# EAGLE library part 749022022 (library Wurth Electronics Midcom Inc V1-0)
Package Style: LAN 1000BT 2 Port PoE+ ETR Mounting: SMD Pins: 48 pins Header: 250-0959 Windings Primary: Aux: Secondary: Best pinouts for production vary per application. Please contact Wurth Electronics Midcom, Inc. for assistance with your custom design. Datasheet: 749022022 <http://www.we-online.com/web/en/index.php/show/media/passive_components_-_custom_magnetics/pdf_doc_files/spec_sheets/7490/749022022.pdf> Website: Wurth Electronics Midcom <http://www.we-online.com/midcom> Contact us Wurth Electronics Midcom, Inc. 121 Airport Dr. Watertown, SD 57201 Phone: (605) 886-4385 Fax: (605) 886-4486 E-Mail: midcom@we-online.com
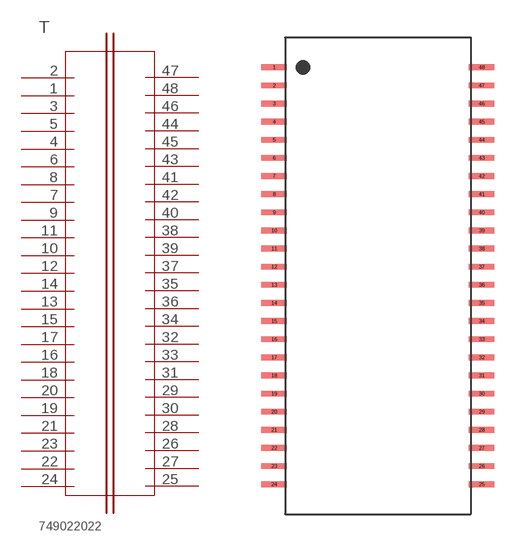
[diagram p148: symbol with the pads of 01STANDARD_LAN_1000BT_2PORT_250-0959; footprint 01STANDARD_LAN_1000BT_2PORT_250-0959]

Designator prefix T

## 749022022  [01STANDARD_LAN_1000BT_2PORT_250-0959]
1  2  pas
2  1  pas
3  3  pas
4  5  pas
5  4  pas
6  6  pas
7  8  pas
8  7  pas
9  9  pas
10  11  pas
11  10  pas
12  12  pas
13  14  pas
14  13  pas
15  15  pas
16  17  pas
17  16  pas
18  18  pas
19  20  pas
20  19  pas
21  21  pas
22  23  pas
23  22  pas
24  24  pas
25  48  pas
26  46  pas
27  47  pas
28  45  pas
29  43  pas
30  44  pas
31  42  pas
32  40  pas
33  41  pas
34  39  pas
35  37  pas
36  38  pas
37  36  pas
38  34  pas
39  35  pas
40  33  pas
41  31  pas
42  32  pas
43  30  pas
44  28  pas
45  29  pas
46  27  pas
47  25  pas
48  26  pas

## Footprint 01STANDARD_LAN_1000BT_2PORT_250-0959 (pad centres in mm)
Package Style: 1000BT 2 Port PoE+ ETR Mounting: SMD Pins: 48 Header: 250-0959
smd 1.778 x 0.406: 1 -7.264,14.605; 2 -7.264,13.335; 3 -7.264,12.065; 4 -7.264,10.795; 5 -7.264,9.525; 6 -7.264,8.255; 7 -7.264,6.985; 8 -7.264,5.715; 9 -7.264,4.445; 10 -7.264,3.175; 11 -7.264,1.905; 12 -7.264,0.635; 13 -7.264,-0.635; 14 -7.264,-1.905; 15 -7.264,-3.175; 16 -7.264,-4.445; 17 -7.264,-5.715; 18 -7.264,-6.985; 19 -7.264,-8.255; 20 -7.264,-9.525; 21 -7.264,-10.795; 22 -7.264,-12.065; 23 -7.264,-13.335; 24 -7.264,-14.605; 25 7.264,-14.605; 26 7.264,-13.335; 27 7.264,-12.065; 28 7.264,-10.795; 29 7.264,-9.525; 30 7.264,-8.255; 31 7.264,-6.985; 32 7.264,-5.715; 33 7.264,-4.445; 34 7.264,-3.175; 35 7.264,-1.905; 36 7.264,-0.635; 37 7.264,0.635; 38 7.264,1.905; 39 7.264,3.175; 40 7.264,4.445; 41 7.264,5.715; 42 7.264,6.985; 43 7.264,8.255; 44 7.264,9.525; 45 7.264,10.795; 46 7.264,12.065; 47 7.264,13.335; 48 7.264,14.605